# Altium footprint library L-KLS1-229-5FB-B-R.PcbLib: 1 footprints
Each footprint in its own frame and in the unit in brackets; x right, y up, seen from the top. Pads: shape width x height; smd on the part's side, far side on the other; paste and mask are expansions set on the pad; w line width, h text height; cw(c..) or ccw(c..) is an arc to the next point about the centre after c.
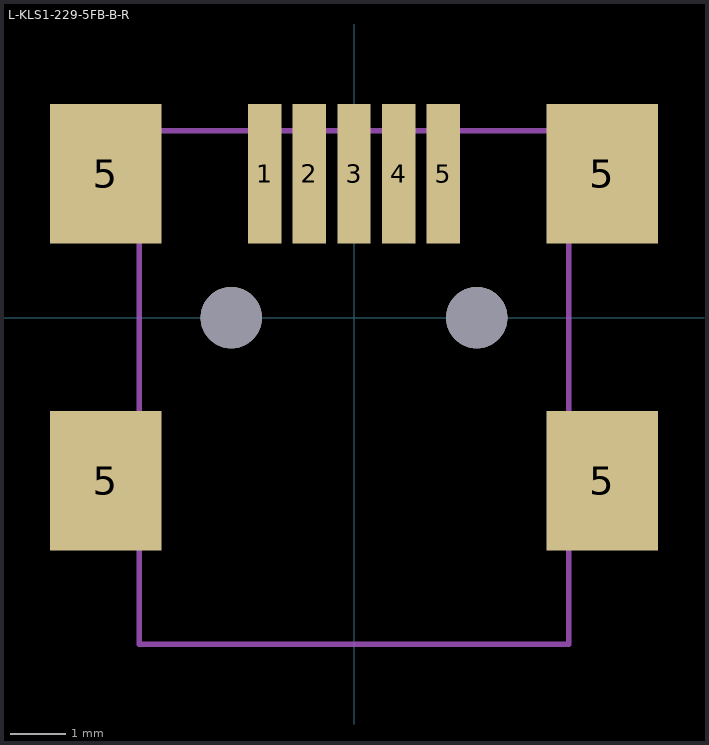
[diagram p0: the footprint, top view; thin cyan lines are the x and y axes]

## L-KLS1-229-5FB-B-R [mm]
pads (11):
  rect 0.6x2.5 smd: 1(-1.6,2.58) 2(-0.8,2.58) 3(0,2.58) 4(0.8,2.58) 5(1.6,2.58)
  rect 2x2.5 smd: 5(-4.45,-2.92) 5(-4.45,2.58) 5(4.45,-2.92) 5(4.45,2.58)
  round 1.1 hole 1.1 unplated: ""(-2.2,0) ""(2.2,0)
Mechanical 1:
  lines w0.1: -3.85,-5.85 -3.85,3.35 3.85,3.35 3.85,-5.85 -3.85,-5.85
3D body "USB Mini B.step": height 3.9, standoff -1, extent -4.8,-5.9 4.8,3.35